# EAGLE library part ADSP_21467 (library ADS1115DGS)
SHARC Processor Auto generated by make-symbol-device-package-bsdl.ulp Rev. 33 Source: ADSP_21467_324_CSPBGA_bsdl.txt http://www.analog.com/static/imported-files/data_sheets/ADSP_21462W_21465W_21467_21469_21469W.pdf
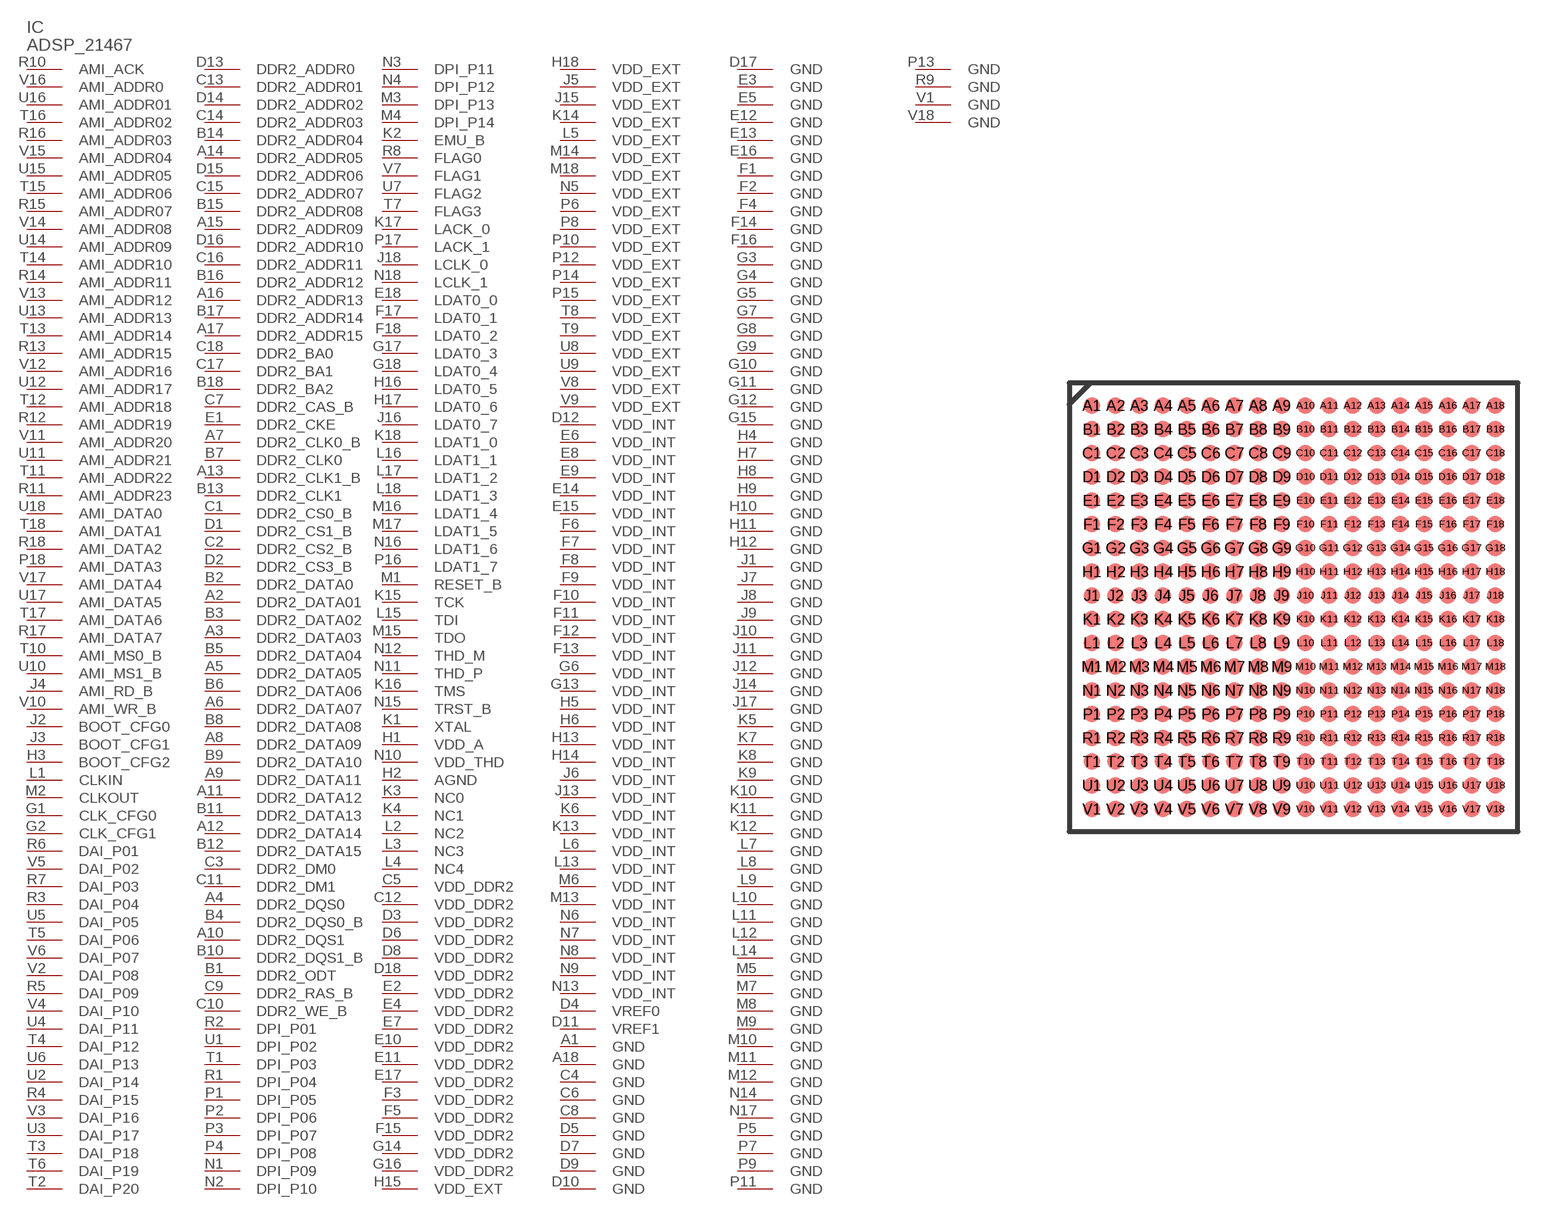
[diagram p136: symbol with the pads of BGA_324_CSP; footprint BGA_324_CSP]

Designator prefix IC

## ADSP_21467 (OC_FARNELL: unknown; OC_NEWARK: unknown)  [BGA_324_CSP]
A1  GND  pwr
A2  DDR2_DATA01
A3  DDR2_DATA03
A4  DDR2_DQS0
A5  DDR2_DATA05
A6  DDR2_DATA07
A7  DDR2_CLK0_B  out
A8  DDR2_DATA09
A9  DDR2_DATA11
A10  DDR2_DQS1
A11  DDR2_DATA12
A12  DDR2_DATA14
A13  DDR2_CLK1_B  out
A14  DDR2_ADDR05  out
A15  DDR2_ADDR09  out
A16  DDR2_ADDR13  out
A17  DDR2_ADDR15  out
A18  GND  pwr
B1  DDR2_ODT  out
B2  DDR2_DATA0
B3  DDR2_DATA02
B4  DDR2_DQS0_B
B5  DDR2_DATA04
B6  DDR2_DATA06
B7  DDR2_CLK0  out
B8  DDR2_DATA08
B9  DDR2_DATA10
B10  DDR2_DQS1_B
B11  DDR2_DATA13
B12  DDR2_DATA15
B13  DDR2_CLK1  out
B14  DDR2_ADDR04  out
B15  DDR2_ADDR08  out
B16  DDR2_ADDR12  out
B17  DDR2_ADDR14  out
B18  DDR2_BA2  out
C1  DDR2_CS0_B  out
C2  DDR2_CS2_B  out
C3  DDR2_DM0  out
C4  GND  pwr
C5  VDD_DDR2  pwr
C6  GND  pwr
C7  DDR2_CAS_B  out
C8  GND  pwr
C9  DDR2_RAS_B  out
C10  DDR2_WE_B  out
C11  DDR2_DM1  out
C12  VDD_DDR2  pwr
C13  DDR2_ADDR01  out
C14  DDR2_ADDR03  out
C15  DDR2_ADDR07  out
C16  DDR2_ADDR11  out
C17  DDR2_BA1  out
C18  DDR2_BA0  out
D1  DDR2_CS1_B  out
D2  DDR2_CS3_B  out
D3  VDD_DDR2  pwr
D4  VREF0  pas
D5  GND  pwr
D6  VDD_DDR2  pwr
D7  GND  pwr
D8  VDD_DDR2  pwr
D9  GND  pwr
D10  GND  pwr
D11  VREF1  pas
D12  VDD_INT  pwr
D13  DDR2_ADDR0  out
D14  DDR2_ADDR02  out
D15  DDR2_ADDR06  out
D16  DDR2_ADDR10  out
D17  GND  pwr
D18  VDD_DDR2  pwr
E1  DDR2_CKE  out
E2  VDD_DDR2  pwr
E3  GND  pwr
E4  VDD_DDR2  pwr
E5  GND  pwr
E6  VDD_INT  pwr
E7  VDD_DDR2  pwr
E8  VDD_INT  pwr
E9  VDD_INT  pwr
E10  VDD_DDR2  pwr
E11  VDD_DDR2  pwr
E12  GND  pwr
E13  GND  pwr
E14  VDD_INT  pwr
E15  VDD_INT  pwr
E16  GND  pwr
E17  VDD_DDR2  pwr
E18  LDAT0_0
F1  GND  pwr
F2  GND  pwr
F3  VDD_DDR2  pwr
F4  GND  pwr
F5  VDD_DDR2  pwr
F6  VDD_INT  pwr
F7  VDD_INT  pwr
F8  VDD_INT  pwr
F9  VDD_INT  pwr
F10  VDD_INT  pwr
F11  VDD_INT  pwr
F12  VDD_INT  pwr
F13  VDD_INT  pwr
F14  GND  pwr
F15  VDD_DDR2  pwr
F16  GND  pwr
F17  LDAT0_1
F18  LDAT0_2
G1  CLK_CFG0  in
G2  CLK_CFG1  in
G3  GND  pwr
G4  GND  pwr
G5  GND  pwr
G6  VDD_INT  pwr
G7  GND  pwr
G8  GND  pwr
G9  GND  pwr
G10  GND  pwr
G11  GND  pwr
G12  GND  pwr
G13  VDD_INT  pwr
G14  VDD_DDR2  pwr
G15  GND  pwr
G16  VDD_DDR2  pwr
G17  LDAT0_3
G18  LDAT0_4
H1  VDD_A  pwr
H2  AGND  pwr
H3  BOOT_CFG2  in
H4  GND  pwr
H5  VDD_INT  pwr
H6  VDD_INT  pwr
H7  GND  pwr
H8  GND  pwr
H9  GND  pwr
H10  GND  pwr
H11  GND  pwr
H12  GND  pwr
H13  VDD_INT  pwr
H14  VDD_INT  pwr
H15  VDD_EXT  pwr
H16  LDAT0_5
H17  LDAT0_6
H18  VDD_EXT  pwr
J1  GND  pwr
J2  BOOT_CFG0  in
J3  BOOT_CFG1  in
J4  AMI_RD_B  out
J5  VDD_EXT  pwr
J6  VDD_INT  pwr
J7  GND  pwr
J8  GND  pwr
J9  GND  pwr
J10  GND  pwr
J11  GND  pwr
J12  GND  pwr
J13  VDD_INT  pwr
J14  GND  pwr
J15  VDD_EXT  pwr
J16  LDAT0_7
J17  GND  pwr
J18  LCLK_0
K1  XTAL  out
K2  EMU_B  out
K3  NC0  pas
K4  NC1  pas
K5  GND  pwr
K6  VDD_INT  pwr
K7  GND  pwr
K8  GND  pwr
K9  GND  pwr
K10  GND  pwr
K11  GND  pwr
K12  GND  pwr
K13  VDD_INT  pwr
K14  VDD_EXT  pwr
K15  TCK  in
K16  TMS  in
K17  LACK_0
K18  LDAT1_0
L1  CLKIN  in
L2  NC2  pas
L3  NC3  pas
L4  NC4  pas
L5  VDD_EXT  pwr
L6  VDD_INT  pwr
L7  GND  pwr
L8  GND  pwr
L9  GND  pwr
L10  GND  pwr
L11  GND  pwr
L12  GND  pwr
L13  VDD_INT  pwr
L14  GND  pwr
L15  TDI  in
L16  LDAT1_1
L17  LDAT1_2
L18  LDAT1_3
M1  RESET_B  in
M2  CLKOUT
M3  DPI_P13
M4  DPI_P14
M5  GND  pwr
M6  VDD_INT  pwr
M7  GND  pwr
M8  GND  pwr
M9  GND  pwr
M10  GND  pwr
M11  GND  pwr
M12  GND  pwr
M13  VDD_INT  pwr
M14  VDD_EXT  pwr
M15  TDO  out
M16  LDAT1_4
M17  LDAT1_5
M18  VDD_EXT  pwr
N1  DPI_P09
N2  DPI_P10
N3  DPI_P11
N4  DPI_P12
N5  VDD_EXT  pwr
N6  VDD_INT  pwr
N7  VDD_INT  pwr
N8  VDD_INT  pwr
N9  VDD_INT  pwr
N10  VDD_THD  pwr
N11  THD_P  pas
N12  THD_M  pas
N13  VDD_INT  pwr
N14  GND  pwr
N15  TRST_B  in
N16  LDAT1_6
N17  GND  pwr
N18  LCLK_1
P1  DPI_P05
P2  DPI_P06
P3  DPI_P07
P4  DPI_P08
P5  GND  pwr
P6  VDD_EXT  pwr
P7  GND  pwr
P8  VDD_EXT  pwr
P9  GND  pwr
P10  VDD_EXT  pwr
P11  GND  pwr
P12  VDD_EXT  pwr
P13  GND  pwr
P14  VDD_EXT  pwr
P15  VDD_EXT  pwr
P16  LDAT1_7
P17  LACK_1
P18  AMI_DATA3
R1  DPI_P04
R2  DPI_P01
R3  DAI_P04
R4  DAI_P15
R5  DAI_P09
R6  DAI_P01
R7  DAI_P03
R8  FLAG0
R9  GND  pwr
R10  AMI_ACK  in
R11  AMI_ADDR23
R12  AMI_ADDR19
R13  AMI_ADDR15
R14  AMI_ADDR11
R15  AMI_ADDR07
R16  AMI_ADDR03
R17  AMI_DATA7
R18  AMI_DATA2
T1  DPI_P03
T2  DAI_P20
T3  DAI_P18
T4  DAI_P12
T5  DAI_P06
T6  DAI_P19
T7  FLAG3
T8  VDD_EXT  pwr
T9  VDD_EXT  pwr
T10  AMI_MS0_B  out
T11  AMI_ADDR22
T12  AMI_ADDR18
T13  AMI_ADDR14
T14  AMI_ADDR10
T15  AMI_ADDR06
T16  AMI_ADDR02
T17  AMI_DATA6
T18  AMI_DATA1
U1  DPI_P02
U2  DAI_P14
U3  DAI_P17
U4  DAI_P11
U5  DAI_P05
U6  DAI_P13
U7  FLAG2
U8  VDD_EXT  pwr
U9  VDD_EXT  pwr
U10  AMI_MS1_B  out
U11  AMI_ADDR21
U12  AMI_ADDR17
U13  AMI_ADDR13
U14  AMI_ADDR09
U15  AMI_ADDR05
U16  AMI_ADDR01
U17  AMI_DATA5
U18  AMI_DATA0
V1  GND  pwr
V2  DAI_P08
V3  DAI_P16
V4  DAI_P10
V5  DAI_P02
V6  DAI_P07
V7  FLAG1
V8  VDD_EXT  pwr
V9  VDD_EXT  pwr
V10  AMI_WR_B  out
V11  AMI_ADDR20
V12  AMI_ADDR16
V13  AMI_ADDR12
V14  AMI_ADDR08
V15  AMI_ADDR04
V16  AMI_ADDR0
V17  AMI_DATA4
V18  GND  pwr

## Footprint BGA_324_CSP (pad centres in mm)
ADSP_21462W_324_CSPBGA_bsdl edit this description Auto generated by make-symbol-device-package-bsdl.ulp Rev. 33 Source: ADSP_21462W_324_CSPBGA_bsdl.txt
smd 0.7 x 0.7: A1 -8.5,8.5; A2 -7.5,8.5; A3 -6.5,8.5; A4 -5.5,8.5; A5 -4.5,8.5; A6 -3.5,8.5; A7 -2.5,8.5; A8 -1.5,8.5; A9 -0.5,8.5; A10 0.5,8.5; A11 1.5,8.5; A12 2.5,8.5; A13 3.5,8.5; A14 4.5,8.5; A15 5.5,8.5; A16 6.5,8.5; A17 7.5,8.5; A18 8.5,8.5; B1 -8.5,7.5; B2 -7.5,7.5; B3 -6.5,7.5; B4 -5.5,7.5; B5 -4.5,7.5; B6 -3.5,7.5; B7 -2.5,7.5; B8 -1.5,7.5; B9 -0.5,7.5; B10 0.5,7.5; B11 1.5,7.5; B12 2.5,7.5; B13 3.5,7.5; B14 4.5,7.5; B15 5.5,7.5; B16 6.5,7.5; B17 7.5,7.5; B18 8.5,7.5; C1 -8.5,6.5; C2 -7.5,6.5; C3 -6.5,6.5; C4 -5.5,6.5; C5 -4.5,6.5; C6 -3.5,6.5; C7 -2.5,6.5; C8 -1.5,6.5; C9 -0.5,6.5; C10 0.5,6.5; C11 1.5,6.5; C12 2.5,6.5; C13 3.5,6.5; C14 4.5,6.5; C15 5.5,6.5; C16 6.5,6.5; C17 7.5,6.5; C18 8.5,6.5; D1 -8.5,5.5; D2 -7.5,5.5; D3 -6.5,5.5; D4 -5.5,5.5; D5 -4.5,5.5; D6 -3.5,5.5; D7 -2.5,5.5; D8 -1.5,5.5; D9 -0.5,5.5; D10 0.5,5.5; D11 1.5,5.5; D12 2.5,5.5; D13 3.5,5.5; D14 4.5,5.5; D15 5.5,5.5; D16 6.5,5.5; D17 7.5,5.5; D18 8.5,5.5; E1 -8.5,4.5; E2 -7.5,4.5; E3 -6.5,4.5; E4 -5.5,4.5; E5 -4.5,4.5; E6 -3.5,4.5; E7 -2.5,4.5; E8 -1.5,4.5; E9 -0.5,4.5; E10 0.5,4.5; E11 1.5,4.5; E12 2.5,4.5; E13 3.5,4.5; E14 4.5,4.5; E15 5.5,4.5; E16 6.5,4.5; E17 7.5,4.5; E18 8.5,4.5; F1 -8.5,3.5; F2 -7.5,3.5; F3 -6.5,3.5; F4 -5.5,3.5; F5 -4.5,3.5; F6 -3.5,3.5; F7 -2.5,3.5; F8 -1.5,3.5; F9 -0.5,3.5; F10 0.5,3.5; F11 1.5,3.5; F12 2.5,3.5; F13 3.5,3.5; F14 4.5,3.5; F15 5.5,3.5; F16 6.5,3.5; F17 7.5,3.5; F18 8.5,3.5; G1 -8.5,2.5; G2 -7.5,2.5; G3 -6.5,2.5; G4 -5.5,2.5; G5 -4.5,2.5; G6 -3.5,2.5; G7 -2.5,2.5; G8 -1.5,2.5; G9 -0.5,2.5; G10 0.5,2.5; G11 1.5,2.5; G12 2.5,2.5; G13 3.5,2.5; G14 4.5,2.5; G15 5.5,2.5; G16 6.5,2.5; G17 7.5,2.5; G18 8.5,2.5; H1 -8.5,1.5; H2 -7.5,1.5; H3 -6.5,1.5; H4 -5.5,1.5; H5 -4.5,1.5; H6 -3.5,1.5; H7 -2.5,1.5; H8 -1.5,1.5; H9 -0.5,1.5; H10 0.5,1.5; H11 1.5,1.5; H12 2.5,1.5; H13 3.5,1.5; H14 4.5,1.5; H15 5.5,1.5; H16 6.5,1.5; H17 7.5,1.5; H18 8.5,1.5; J1 -8.5,0.5; J2 -7.5,0.5; J3 -6.5,0.5; J4 -5.5,0.5; J5 -4.5,0.5; J6 -3.5,0.5; J7 -2.5,0.5; J8 -1.5,0.5; J9 -0.5,0.5; J10 0.5,0.5; J11 1.5,0.5; J12 2.5,0.5; J13 3.5,0.5; J14 4.5,0.5; J15 5.5,0.5; J16 6.5,0.5; J17 7.5,0.5; J18 8.5,0.5; K1 -8.5,-0.5; K2 -7.5,-0.5; K3 -6.5,-0.5; K4 -5.5,-0.5; K5 -4.5,-0.5; K6 -3.5,-0.5; K7 -2.5,-0.5; K8 -1.5,-0.5; K9 -0.5,-0.5; K10 0.5,-0.5; K11 1.5,-0.5; K12 2.5,-0.5; K13 3.5,-0.5; K14 4.5,-0.5; K15 5.5,-0.5; K16 6.5,-0.5; K17 7.5,-0.5; K18 8.5,-0.5; L1 -8.5,-1.5; L2 -7.5,-1.5; L3 -6.5,-1.5; L4 -5.5,-1.5; L5 -4.5,-1.5; L6 -3.5,-1.5; L7 -2.5,-1.5; L8 -1.5,-1.5; L9 -0.5,-1.5; L10 0.5,-1.5; L11 1.5,-1.5; L12 2.5,-1.5; L13 3.5,-1.5; L14 4.5,-1.5; L15 5.5,-1.5; L16 6.5,-1.5; L17 7.5,-1.5; L18 8.5,-1.5; M1 -8.5,-2.5; M2 -7.5,-2.5; M3 -6.5,-2.5; M4 -5.5,-2.5; M5 -4.5,-2.5; M6 -3.5,-2.5; M7 -2.5,-2.5; M8 -1.5,-2.5; M9 -0.5,-2.5; M10 0.5,-2.5; M11 1.5,-2.5; M12 2.5,-2.5; M13 3.5,-2.5; M14 4.5,-2.5; M15 5.5,-2.5; M16 6.5,-2.5; M17 7.5,-2.5; M18 8.5,-2.5; N1 -8.5,-3.5; N2 -7.5,-3.5; N3 -6.5,-3.5; N4 -5.5,-3.5; N5 -4.5,-3.5; N6 -3.5,-3.5; N7 -2.5,-3.5; N8 -1.5,-3.5; N9 -0.5,-3.5; N10 0.5,-3.5; N11 1.5,-3.5; N12 2.5,-3.5; N13 3.5,-3.5; N14 4.5,-3.5; N15 5.5,-3.5; N16 6.5,-3.5; N17 7.5,-3.5; N18 8.5,-3.5; P1 -8.5,-4.5; P2 -7.5,-4.5; P3 -6.5,-4.5; P4 -5.5,-4.5; P5 -4.5,-4.5; P6 -3.5,-4.5; P7 -2.5,-4.5; P8 -1.5,-4.5; P9 -0.5,-4.5; P10 0.5,-4.5; P11 1.5,-4.5; P12 2.5,-4.5; P13 3.5,-4.5; P14 4.5,-4.5; P15 5.5,-4.5; P16 6.5,-4.5; P17 7.5,-4.5; P18 8.5,-4.5; R1 -8.5,-5.5; R2 -7.5,-5.5; R3 -6.5,-5.5; R4 -5.5,-5.5; R5 -4.5,-5.5; R6 -3.5,-5.5; R7 -2.5,-5.5; R8 -1.5,-5.5; R9 -0.5,-5.5; R10 0.5,-5.5; R11 1.5,-5.5; R12 2.5,-5.5; R13 3.5,-5.5; R14 4.5,-5.5; R15 5.5,-5.5; R16 6.5,-5.5; R17 7.5,-5.5; R18 8.5,-5.5; T1 -8.5,-6.5; T2 -7.5,-6.5; T3 -6.5,-6.5; T4 -5.5,-6.5; T5 -4.5,-6.5; T6 -3.5,-6.5; T7 -2.5,-6.5; T8 -1.5,-6.5; T9 -0.5,-6.5; T10 0.5,-6.5; T11 1.5,-6.5; T12 2.5,-6.5; T13 3.5,-6.5; T14 4.5,-6.5; T15 5.5,-6.5; T16 6.5,-6.5; T17 7.5,-6.5; T18 8.5,-6.5; U1 -8.5,-7.5; U2 -7.5,-7.5; U3 -6.5,-7.5; U4 -5.5,-7.5; U5 -4.5,-7.5; U6 -3.5,-7.5; U7 -2.5,-7.5; U8 -1.5,-7.5; U9 -0.5,-7.5; U10 0.5,-7.5; U11 1.5,-7.5; U12 2.5,-7.5; U13 3.5,-7.5; U14 4.5,-7.5; U15 5.5,-7.5; U16 6.5,-7.5; U17 7.5,-7.5; U18 8.5,-7.5; V1 -8.5,-8.5; V2 -7.5,-8.5; V3 -6.5,-8.5; V4 -5.5,-8.5; V5 -4.5,-8.5; V6 -3.5,-8.5; V7 -2.5,-8.5; V8 -1.5,-8.5; V9 -0.5,-8.5; V10 0.5,-8.5; V11 1.5,-8.5; V12 2.5,-8.5; V13 3.5,-8.5; V14 4.5,-8.5; V15 5.5,-8.5; V16 6.5,-8.5; V17 7.5,-8.5; V18 8.5,-8.5